# Altium schematic symbol library CD40109BPWR.Schlib: 1 symbol
Pins are listed as number, name and electrical type; pins without a type are passive.

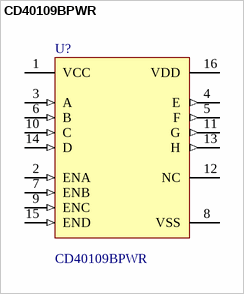
[diagram p0: symbol CD40109BPWR]

## CD40109BPWR
designator U?
Voltage Level Translator Unidirectional 4 Circuit 1 Channel 16-TSSOP
pins: 1 VCC (power), 2 ENA (in), 3 A (in), 4 E (out), 5 F (out), 6 B (in), 7 ENB (in), 8 VSS (power), 9 ENC (in), 10 C (in), 11 G (out), 12 NC, 13 H (out), 14 D (in), 15 END (in), 16 VDD (power)